# Altium footprint library TPA6211TDGNRQ1.PcbLib: 4 footprints
Each footprint in its own frame and in the unit in brackets; x right, y up, seen from the top. Pads: shape width x height; smd on the part's side, far side on the other; paste and mask are expansions set on the pad; w line width, h text height; cw(c..) or ccw(c..) is an arc to the next point about the centre after c.
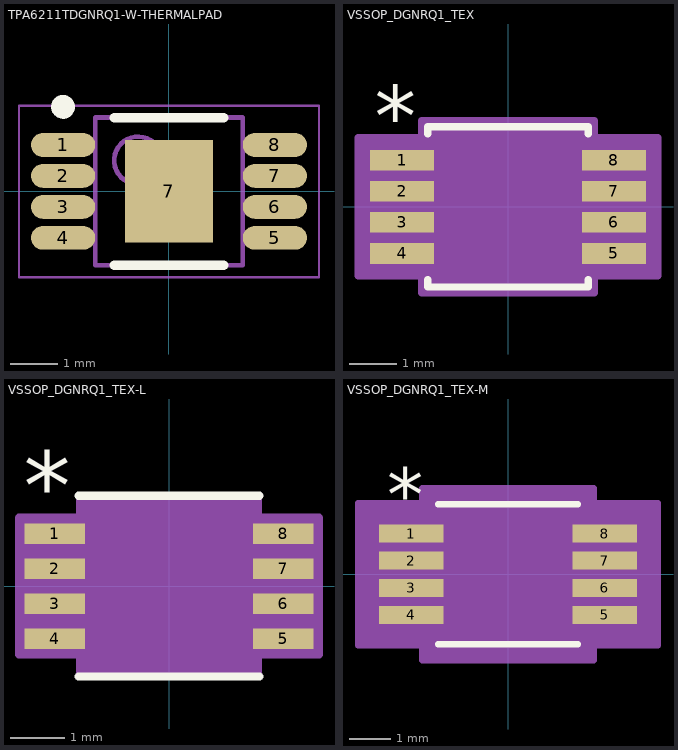
[diagram p0: the footprints below, top view; thin cyan lines are the x and y axes]

## TPA6211TDGNRQ1-W-THERMALPAD [mm] "TSOP, 8-Leads, Body 3.00x3.00mm, Pitch 0.65mm, Thermal Pad 2.15x1.85mm, IPC Medium Density"
height 1.1
pads (9):
  oval 1.35x0.5 smd mask+0.102: 1(-2.225,0.975)
  oval 1.35x0.5 smd: 2(-2.225,0.325) 3(-2.225,-0.325) 4(-2.225,-0.975) 5(2.225,-0.975) 6(2.225,-0.325) 7(2.225,0.325) 8(2.225,0.975)
  rect 1.85x2.15 smd: 7(0,0)
Top Overlay:
  circle w0.25: c-2.225,1.775 r0.125
  lines w0.2: -1.15,-1.55 1.15,-1.55 ; -1.15,1.55 1.15,1.55
Mechanical 13:
  circle w0.1: c-0.65,0.65 r0.5
  lines w0.1: -1.55,-1.55 1.55,-1.55 1.55,1.55 -1.55,1.55 -1.55,-1.55
Mechanical 15:
  lines w0.05: -3.15,-1.8 3.15,-1.8 3.15,1.8 -3.15,1.8 -3.15,-1.8
  lines w0.1: -0.5,0 0.5,0 ; 0,-0.5 0,0.5
3D body "TPA6211TDGNRQ1-W-THERMALPAD.step": height 1.1, standoff 0, extent -2.45,-1.55 2.45,1.55

## VSSOP_DGNRQ1_TEX [mil]
pads (8):
  rect 52.5x17 smd paste+0 mask+0: 1(-87.25,38.38) 2(-87.25,12.79) 3(-87.25,-12.79) 4(-87.25,-38.38) 5(87.25,-38.38) 6(87.25,-12.79) 7(87.25,12.79) 8(87.25,38.38)
Top Overlay:
  lines w6: -66,-59.98 -66,-66 66,-66 66,-59.98 ; -66,59.98 -66,66 66,66 66,59.98
  text "*" at -109.75,50.38 h50
Mechanical 13:
  lines w0: -12,61 ccw(c0,61) 12,61
  lines w1: -99.5,-45.88 -99.5,-30.89 -61,-30.89 -61,-45.88 -99.5,-45.88 ; -99.5,-20.3 -99.5,-5.29 -61,-5.29 -61,-20.3 -99.5,-20.3 ; -99.5,5.29 -99.5,20.3 -61,20.3 -61,5.29 -99.5,5.29 ; -99.5,30.89 -99.5,45.88 -61,45.88 -61,30.89 -99.5,30.89 ; -61,-61 61,-61 61,61 -61,61 -61,-61 ; 61,-45.88 61,-30.89 99.5,-30.89 99.5,-45.88 61,-45.88 ; 61,-20.3 61,-5.29 99.5,-5.29 99.5,-20.3 61,-20.3 ; 61,5.29 61,20.3 99.5,20.3 99.5,5.29 61,5.29 ; 61,30.89 61,45.88 99.5,45.88 99.5,30.89 61,30.89
  text "*" at -58.5,8 h50
Mechanical 15:
  region: -71,-56.88 -123.5,-56.88 -123.5,56.88 -71,56.88 -71,71 71,71 71,56.88 123.5,56.88 123.5,-56.88 71,-56.88 71,-71 -71,-71
  lines w6: -123.5,-56.88 -123.5,56.88 -71,56.88 -71,71 71,71 71,56.88 123.5,56.88 123.5,-56.88 71,-56.88 71,-71 -71,-71 -71,-56.88 -123.5,-56.88
3D body "VSSOP_DGNRQ1_TEX.step": height 43.11, standoff 0, extent -99.49,-60.98 99.49,60.98

## VSSOP_DGNRQ1_TEX-L [mil]
pads (8):
  rect 44x15 smd paste+0 mask+0: 1(-83.5,38.38) 2(-83.5,12.79) 3(-83.5,-12.79) 4(-83.5,-38.38) 5(83.5,-38.38) 6(83.5,-12.79) 7(83.5,12.79) 8(83.5,38.38)
Top Overlay:
  lines w6: -66,-66 66,-66 ; -66,66 66,66
  text "*" at -106,48.38 h50
Mechanical 13:
  lines w0: -12,61 ccw(c0,61) 12,61
  lines w1: -99.5,-45.88 -99.5,-30.89 -61,-30.89 -61,-45.88 -99.5,-45.88 ; -99.5,-20.3 -99.5,-5.29 -61,-5.29 -61,-20.3 -99.5,-20.3 ; -99.5,5.29 -99.5,20.3 -61,20.3 -61,5.29 -99.5,5.29 ; -99.5,30.89 -99.5,45.88 -61,45.88 -61,30.89 -99.5,30.89 ; -61,-61 61,-61 61,61 -61,61 -61,-61 ; 61,-45.88 61,-30.89 99.5,-30.89 99.5,-45.88 61,-45.88 ; 61,-20.3 61,-5.29 99.5,-5.29 99.5,-20.3 61,-20.3 ; 61,5.29 61,20.3 99.5,20.3 99.5,5.29 61,5.29 ; 61,30.89 61,45.88 99.5,45.88 99.5,30.89 61,30.89
  text "*" at -58.5,8 h50
Mechanical 15:
  region: -65,-49.88 -109.5,-49.88 -109.5,49.88 -65,49.88 -65,65 65,65 65,49.88 109.5,49.88 109.5,-49.88 65,-49.88 65,-65 -65,-65
  lines w6: -109.5,-49.88 -109.5,49.88 -65,49.88 -65,65 65,65 65,49.88 109.5,49.88 109.5,-49.88 65,-49.88 65,-65 -65,-65 -65,-49.88 -109.5,-49.88
3D body "VSSOP_DGNRQ1_TEX.step": height 43.11, standoff 0, extent -99.49,-60.98 99.49,60.98

## VSSOP_DGNRQ1_TEX-M [mil]
pads (8):
  rect 60.5x17 smd paste+0 mask+0: 1(-91.25,38.38) 2(-91.25,12.79) 3(-91.25,-12.79) 4(-91.25,-38.38) 5(91.25,-38.38) 6(91.25,-12.79) 7(91.25,12.79) 8(91.25,38.38)
Top Overlay:
  lines w6: -66,-66 66,-66 ; -66,66 66,66
  text "*" at -113.75,50.38 h50
Mechanical 13:
  lines w0: -12,61 ccw(c0,61) 12,61
  lines w1: -99.5,-45.88 -99.5,-30.89 -61,-30.89 -61,-45.88 -99.5,-45.88 ; -99.5,-20.3 -99.5,-5.29 -61,-5.29 -61,-20.3 -99.5,-20.3 ; -99.5,5.29 -99.5,20.3 -61,20.3 -61,5.29 -99.5,5.29 ; -99.5,30.89 -99.5,45.88 -61,45.88 -61,30.89 -99.5,30.89 ; -61,-61 61,-61 61,61 -61,61 -61,-61 ; 61,-45.88 61,-30.89 99.5,-30.89 99.5,-45.88 61,-45.88 ; 61,-20.3 61,-5.29 99.5,-5.29 99.5,-20.3 61,-20.3 ; 61,5.29 61,20.3 99.5,20.3 99.5,5.29 61,5.29 ; 61,30.89 61,45.88 99.5,45.88 99.5,30.89 61,30.89
  text "*" at -58.5,8 h50
Mechanical 15:
  region: -81,-66.89 -141.5,-66.89 -141.5,66.89 -81,66.89 -81,81 81,81 81,66.89 141.5,66.89 141.5,-66.89 81,-66.89 81,-81 -81,-81
  lines w6: -141.5,-66.89 -141.5,66.89 -81,66.89 -81,81 81,81 81,66.89 141.5,66.89 141.5,-66.89 81,-66.89 81,-81 -81,-81 -81,-66.89 -141.5,-66.89
3D body "VSSOP_DGNRQ1_TEX.step": height 43.11, standoff 0, extent -99.49,-60.98 99.49,60.98